# EAGLE library part RINGKERN_5VA (library Trafo)
Ringkerntrafo 2*U, 2*5VA
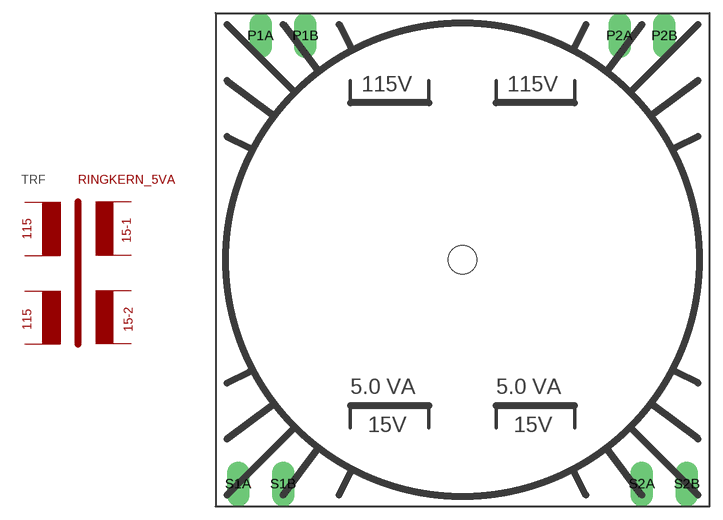
[diagram p4: symbol with the pads of RINGKERN_5VA; footprint RINGKERN_5VA]

Designator prefix TRF

## RINGKERN_5VA  [RINGKERN_5VA]
P1A  P1A
P1B  P1B
P2A  P2A
P2B  P2B
S1A  S1A
S1B  S1B
S2A  S2A
S2B  S2B

## Footprint RINGKERN_5VA (pad centres in mm)
drill 1 pad 2.54 long: P1A -22.86,25.4; P1B -17.78,25.4; P2A 17.78,25.4; P2B 22.86,25.4; S1A -25.4,-25.4; S1B -20.32,-25.4; S2A 20.32,-25.4; S2B 25.4,-25.4
hole 3.2 at 0,0